# Altium footprint library stm32f103c8t6最小系统.PcbLib: 5 footprints
Each footprint in its own frame and in the unit in brackets; x right, y up, seen from the top. Pads: shape width x height; smd on the part's side, far side on the other; paste and mask are expansions set on the pad; w line width, h text height; cw(c..) or ccw(c..) is an arc to the next point about the centre after c.
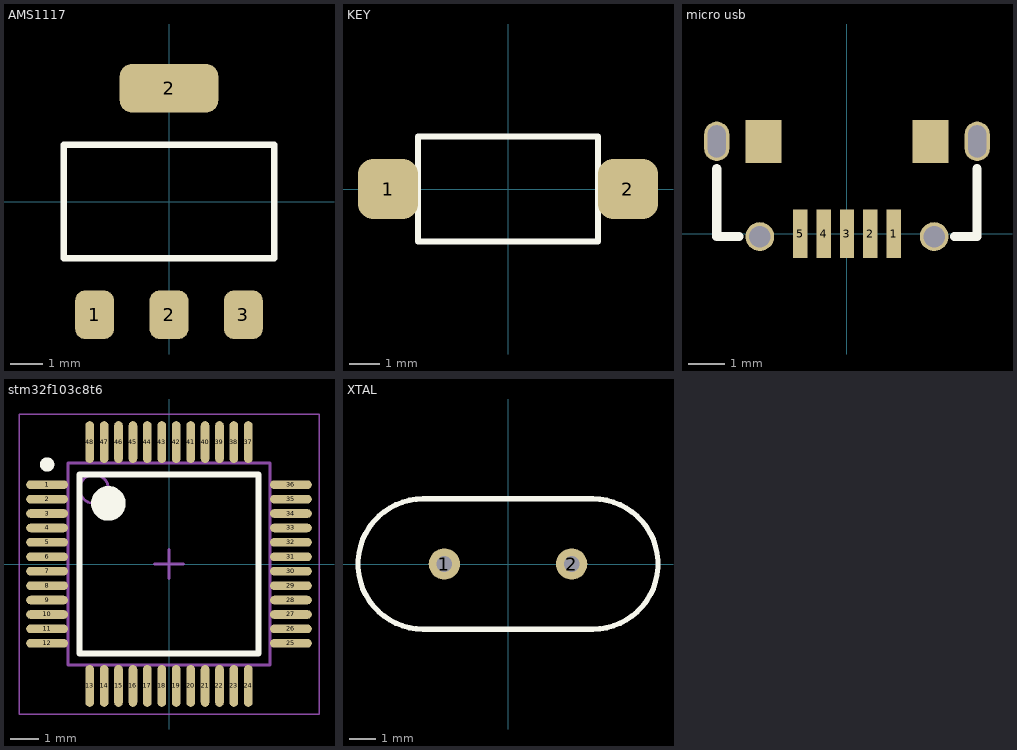
[diagram p0: the footprints below, top view; thin cyan lines are the x and y axes]

## AMS1117 [mm]
pads (4):
  rrect50% 1.2x1.5 smd: 1(-2.3,-3.5) 2(0,-3.5) 3(2.3,-3.5)
  rrect50% 3.05x1.5 smd: 2(0,3.5)
Top Overlay:
  lines w0.2: -3.253,-1.753 -3.253,1.753 3.253,1.753 3.253,-1.753 -3.253,-1.753
3D body "User Library-AMS1117.STEP": height 1.85, standoff -0.01, extent -3.25,-3.499 3.25,3.5

## KEY [mm]
pads (2):
  rrect50% 2x2 smd: 1(-4,0) 2(4,0)
Top Overlay:
  lines w0.2: -3,-1.75 -3,1.75 3,1.75 3,-1.75 -3,-1.75
3D body "User Library-switch-9.STEP": height 4.5, standoff -0.01, extent -4.5,-1.75 4.5,1.75

## micro usb [mm]
pads (11):
  rect 0.4x1.35 smd: 1(1.3,0) 2(0.65,0) 3(0,0) 4(-0.65,0) 5(-1.3,0)
  oval 0.7x1.1 hole 0.5 slot 0.9 at 90 deg: ""(-3.625,2.575) ""(3.625,2.575)
  round 0.8 hole 0.6: ""(-2.425,-0.075) ""(2.425,-0.075)
  rect 1x1.2 smd: ""(-2.325,2.575) ""(2.325,2.575)
Top Overlay:
  lines w0.254: -3.625,1.813 -3.625,-0.075 -3.007,-0.075 ; 2.996,-0.075 3.614,-0.075 3.614,1.813
3D body "User Library-ZX62D-AB-5P8.STEP": height 2.78, standoff -0.61, extent -4.325,-0.308 4.325,5.591

## stm32f103c8t6 [mm] "TSQFP, 48-Leads, Body 7.00x7.00mm, Pitch 0.50mm, IPC Medium Density"
height 1.6
pads (48):
  oval 1.45x0.3 smd: 1(-4.225,2.75) 2(-4.225,2.25) 3(-4.225,1.75) 4(-4.225,1.25) 5(-4.225,0.75) 6(-4.225,0.25) 7(-4.225,-0.25) 8(-4.225,-0.75) 9(-4.225,-1.25) 10(-4.225,-1.75) 11(-4.225,-2.25) 12(-4.225,-2.75) 25(4.225,-2.75) 26(4.225,-2.25) 27(4.225,-1.75) 28(4.225,-1.25) 29(4.225,-0.75) 30(4.225,-0.25) 31(4.225,0.25) 32(4.225,0.75) 33(4.225,1.25) 34(4.225,1.75) 35(4.225,2.25) 36(4.225,2.75)
  oval 0.3x1.45 smd: 13(-2.75,-4.225) 14(-2.25,-4.225) 15(-1.75,-4.225) 16(-1.25,-4.225) 17(-0.75,-4.225) 18(-0.25,-4.225) 19(0.25,-4.225) 20(0.75,-4.225) 21(1.25,-4.225) 22(1.75,-4.225) 23(2.25,-4.225) 24(2.75,-4.225) 37(2.75,4.225) 38(2.25,4.225) 39(1.75,4.225) 40(1.25,4.225) 41(0.75,4.225) 42(0.25,4.225) 43(-0.25,4.225) 44(-0.75,4.225) 45(-1.25,4.225) 46(-1.75,4.225) 47(-2.25,4.225) 48(-2.75,4.225)
Top Overlay:
  circle w0.25: c-4.225,3.45 r0.125
  circle w0.6: c-2.1,2.1 r0.3
  lines w0.2: -3.1,-3.1 -3.1,3.1 3.1,3.1 3.1,-3.1 -3.1,-3.1
Mechanical 13:
  circle w0.1: c-2.6,2.6 r0.5
  lines w0.1: -3.5,-3.5 -3.5,3.5 3.5,3.5 3.5,-3.5 -3.5,-3.5
Mechanical 15:
  lines w0.05: -5.2,-5.2 -5.2,5.2 5.2,5.2 5.2,-5.2 -5.2,-5.2
  lines w0.1: -0.5,0 0.5,0 ; 0,-0.5 0,0.5
3D body "User Library-LQFP50P900X900X160.STEP": height 1.6, standoff 0, extent -4.5,-4.5 4.5,4.5

## XTAL [mm] "晶振"
pads (2):
  round 1.2 hole 0.6: 1(-2.44,0) 2(2.44,0)
Top Overlay:
  lines w0.2: -3.25,-2.5 cw(c-3.25,0) -3.25,2.5 3.25,2.5 cw(c3.25,0) 3.25,-2.5 -3.25,-2.5
3D body "User Library-HC49_Crystal.STEP": height 3.6, standoff -12.7, extent -5.675,-2.325 5.675,2.325